# EAGLE library part JTAG-AVR-MINI-PROG (library Connector)
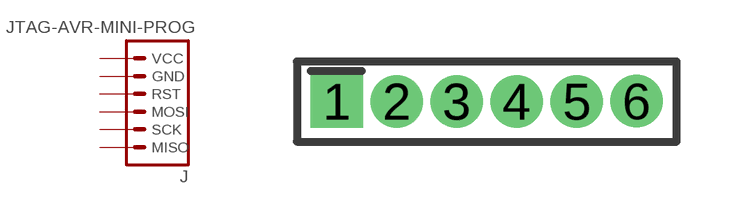
[diagram p28: symbol with the pads of 6P-1.5; footprint 6P-1.5]

Designator prefix J

## JTAG-AVR-MINI-PROG  [6P-1.5]
1  VCC  pas
2  GND  pas
3  RST  pas
4  MOSI  pas
5  SCK  pas
6  MISO  pas

## Footprint 6P-1.5 (pad centres in mm)
drill 0.8 pad 1.27 square: 1 0,0
drill 0.8 pad 1.27 round: 2 1.5,0; 3 3,0; 4 4.5,0; 5 6,0; 6 7.5,0.01